# Altium footprint library RP8.pcb.PcbLib: 1 footprints
Each footprint in its own frame and in the unit in brackets; x right, y up, seen from the top. Pads: shape width x height; smd on the part's side, far side on the other; paste and mask are expansions set on the pad; w line width, h text height; cw(c..) or ccw(c..) is an arc to the next point about the centre after c.
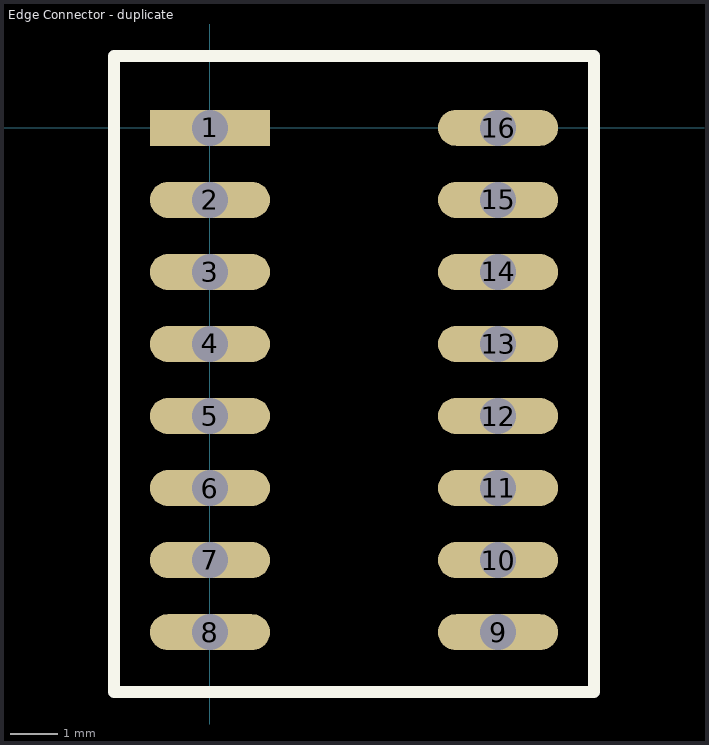
[diagram p0: the footprint, top view; thin cyan lines are the x and y axes]

## Edge Connector - duplicate [mil]
pads (16):
  rect 100x30 hole 30: 1(0,0)
  oval 100x30 hole 30: 2(0,-60) 3(0,-120) 4(0,-180) 5(0,-240) 6(0,-300) 7(0,-360) 8(0,-420) 9(240,-420) 10(240,-360) 11(240,-300) 12(240,-240) 13(240,-180) 14(240,-120) 15(240,-60) 16(240,0)
Top Overlay:
  lines w10: -80,-470 -80,60 320,60 320,-430 320,-470 -80,-470